# Altium schematic symbol library SchlibBTRC.SchLib: 19 symbols
Pins are listed as number, name and electrical type; pins without a type are passive.

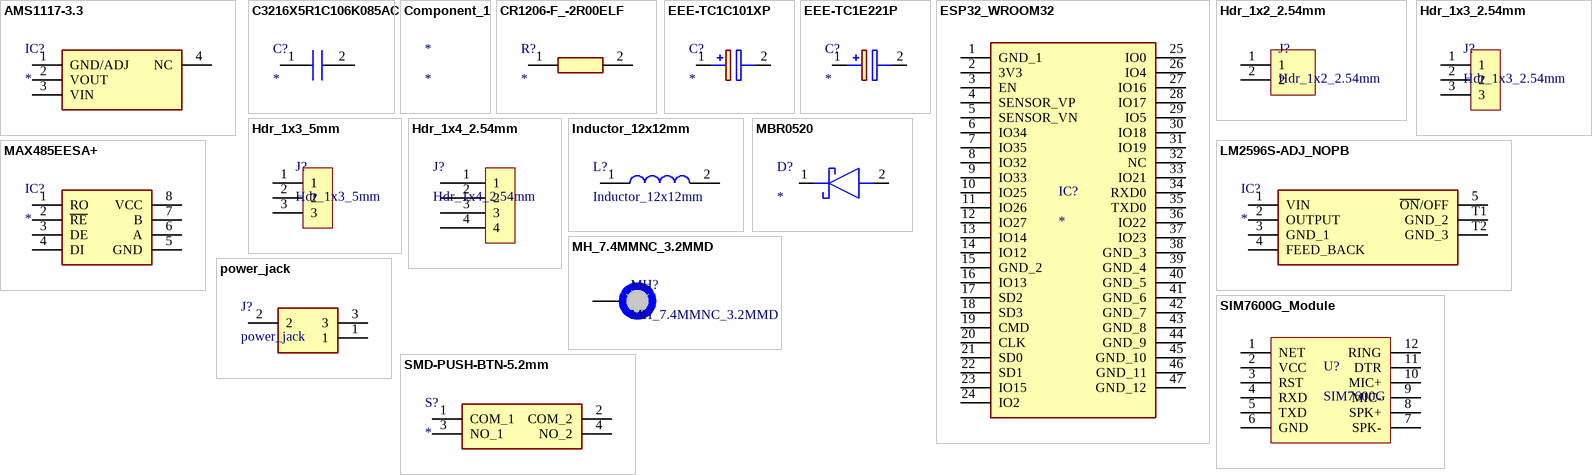
[diagram p0: symbols AMS1117-3.3 to SMD-PUSH-BTN-5.2mm]

## AMS1117-3.3
designator IC?
Integrated Circuit; Manufacturer_Name: Advanced; Manufacturer_Part_Number: AMS1117-3.3; Datasheet Link: https://datasheet.datasheetarchive.com/originals/distributors/Datasheets-28/DSA-550594.pdf; Height: 1.8mm
footprint SOT229P700X180-4N
pins: 1 GND/ADJ, 2 VOUT, 3 VIN, 4 NC

## C3216X5R1C106K085AC
designator C?
Capacitor; Manufacturer_Name: TDK; Manufacturer_Part_Number: C3216X5R1C106K085AC; Datasheet Link: https://product.tdk.com/info/en/catalog/datasheets/mlcc_commercial_midvoltage_en.pdf; Height: 1mm; Mouser Part Number: 810-C3216X5R1C106K0C; Mouser Price/Stock: https://www.mouser.com/Search/Refine.aspx?Keyword=810-C3216X5R1C106K0C
footprint CAPC3216X100N
pins: 1, 2

## Component_1
designator *

## CR1206-F_-2R00ELF
designator R?
Resistor; Manufacturer_Name: Bourns; Manufacturer_Part_Number: CR1206-F/-2R00ELF; Height: 0.75mm; Mouser Part Number: 652-CR1206-F/2R00ELF; Mouser Price/Stock: https://www.mouser.co.uk/ProductDetail/Bourns/CR1206-F-2R00ELF?qs=W%2FMpXkg%252BdQ47Z%2FeZv1nDSg%3D%3D
footprint RESC3216X75N
pins: 1, 2

## EEE-TC1C101XP
designator C?
Capacitor Polarised; Manufacturer_Name: Panasonic; Manufacturer_Part_Number: EEE-TC1C101XP; Datasheet Link: http://industrial.panasonic.com/cdbs/www-data/pdf/RDE0000/ABA0000C678.pdf; Height: 7.8mm; Mouser Part Number: 667-EEE-TC1C101XP; Mouser Price/Stock: https://www.mouser.co.uk/ProductDetail/Panasonic/EEE-TC1C101XP?qs=367PjNmvCmntb8uQ4S3WYg%3D%3D; Arrow Part Number: EEE-TC1C101XP; Arrow Price/Stock: https://www.arrow.com/en/products/eee-tc1c101xp/panasonic
footprint EEE0JA331XP
pins: 1 +, 2 -

## EEE-TC1E221P
designator C?
Capacitor Polarised; Manufacturer_Name: Panasonic; Manufacturer_Part_Number: EEE-TC1E221P; Datasheet Link: http://industrial.panasonic.com/cdbs/www-data/pdf/RDE0000/ABA0000C678.pdf; Height: 12mm; Mouser Part Number: 667-EEE-TC1E221P; Mouser Price/Stock: https://www.mouser.co.uk/ProductDetail/Panasonic/EEE-TC1E221P?qs=367PjNmvCmnTZpcwe6iq6Q%3D%3D; Arrow Part Number: EEE-TC1E221P; Arrow Price/Stock: https://www.arrow.com/en/products/eee-tc1e221p/panasonic?region=nac
footprint EEE0JA152UAP
pins: 1 +, 2 -

## ESP32_WROOM32
designator IC?
Integrated Circuit; Manufacturer_Name: Espressif Systems; Manufacturer_Part_Number: ESP32 WROOM32; Datasheet Link: https://www.espressif.com/sites/default/files/documentation/esp32-wroom-32_datasheet_en.pdf; Height: 3.2mm
footprint ESP32WROOM32
pins: 1 GND_1, 2 3V3, 3 EN, 4 SENSOR_VP, 5 SENSOR_VN, 6 IO34, 7 IO35, 8 IO32, 9 IO33, 10 IO25, 11 IO26, 12 IO27, 13 IO14, 14 IO12, 15 GND_2, 16 IO13, 17 SD2, 18 SD3, 19 CMD, 20 CLK, 21 SD0, 22 SD1, 23 IO15, 24 IO2, 25 IO0, 26 IO4, 27 IO16, 28 IO17, 29 IO5, 30 IO18, 31 IO19, 32 NC, 33 IO21, 34 RXD0, 35 TXD0, 36 IO22, 37 IO23, 38 GND_3, 39 GND_4, 40 GND_5, 41 GND_6, 42 GND_7, 43 GND_8, 44 GND_9, 45 GND_10, 46 GND_11, 47 GND_12

## Hdr_1x2_2.54mm
designator J?
footprint HDR_1x2_2.54mm
pins: 1, 2

## Hdr_1x3_2.54mm
designator J?
footprint Hdr_1x3_2.54mm
pins: 1, 2, 3

## Hdr_1x3_5mm
designator J?
footprint Hdr_1x3_5.0mm
pins: 1, 2, 3

## Hdr_1x4_2.54mm
designator J?
footprint Hdr_1x4_2.54mm
pins: 1, 2, 3, 4

## Inductor_12x12mm
designator L?
Inductor; Manufacturer_Name: Wurth Elektronik; Manufacturer_Part_Number: 744774147; Mouser Part Number: 710-744774147; Mouser Price/Stock: https://www.mouser.co.uk/ProductDetail/Wurth-Elektronik/744774147?qs=rS3zZhy2AQMMwor0dxnQcQ%3D%3D
footprint Inductor_12x12mm
pins: 1, 2

## LM2596S-ADJ_NOPB
designator IC?
Integrated Circuit; Manufacturer_Name: Texas Instruments; Manufacturer_Part_Number: LM2596S-ADJ/NOPB; Datasheet Link: https://www.ti.com/lit/ds/symlink/lm2596.pdf?HQS=ti-null-null-sf-df-pf-sep-wwe&ts=1592978195629; Height: 4.57mm; Mouser Part Number: 926-LM2596S-ADJ/NOPB; Mouser Price/Stock: https://www.mouser.co.uk/ProductDetail/Texas-Instruments/LM2596S-ADJ-NOPB?qs=X1J7HmVL2ZHoMN0DLDcNog%3D%3D; Arrow Part Number: LM2596S-ADJ/NOPB; Arrow Price/Stock: https://www.arrow.com/en/products/lm2596s-adjnopb/texas-instruments?region=nac
footprint LM2596SXADJ
pins: 1 VIN, 2 OUTPUT, 3 GND_1, 4 FEED_BACK, 5 ~{ON}/OFF, T1 GND_2, T2 GND_3

## MAX485EESA+
designator IC?
Integrated Circuit; Manufacturer_Name: Analog Devices; Manufacturer_Part_Number: MAX485EESA+; Datasheet Link: http://datasheets.maximintegrated.com/en/ds/MAX1487E-MAX491E.pdf; Height: 1.75mm; Mouser Part Number: 700-MAX485EESA; Mouser Price/Stock: https://www.mouser.co.uk/ProductDetail/Analog-Devices-Maxim-Integrated/MAX485EESA%2b?qs=1THa7WoU59HlqXlxuUW1Fg%3D%3D; Arrow Part Number: MAX485EESA+; Arrow Price/Stock: https://www.arrow.com/en/products/max485eesa/maxim-integrated?region=nac
footprint SOIC127P600X175-8N
pins: 1 RO, 2 ~{RE}, 3 DE, 4 DI, 5 GND, 6 A, 7 B, 8 VCC

## MBR0520
designator D?
Schottky Diode; Manufacturer_Name: Shikues; Manufacturer_Part_Number: MBR0520; Datasheet Link: https://datasheet.lcsc.com/szlcsc/2001131004_Shikues-MBR0520_C475717.pdf; Height: 1.2mm
footprint SOD3716X120N
pins: 1 K, 2 A

## MH_7.4MMNC_3.2MMD
designator MH?
footprint MH_7.4MMNC_3.2MMD_NON_COPPER_NPTH
pins: 1

## power_jack
designator J?
Connector; Manufacturer_Name: LUMBERG; Manufacturer_Part_Number: 1613 20; Datasheet Link: http://www.farnell.com/datasheets/2349122.pdf; Height: 7mm
footprint power_jack
pins: 1, 2, 3

## SIM7600G_Module
designator U?, comment SIM7600G
footprint SIM7600G_Module
pins: 1 NET, 2 VCC, 3 RST, 4 RXD, 5 TXD, 6 GND, 7 SPK-, 8 SPK+, 9 MIC-, 10 MIC+, 11 DTR, 12 RING

## SMD-PUSH-BTN-5.2mm
designator S?
Switch; Manufacturer_Name: SparkFun; Manufacturer_Part_Number: COM-08720; Datasheet Link: https://www.sparkfun.com/datasheets/Components/Buttons/SMD-Button.pdf; Height: 1.6mm; Mouser Part Number: 474-COM-08720; Mouser Price/Stock: https://www.mouser.co.uk/ProductDetail/SparkFun/COM-08720?qs=WyAARYrbSnaaMDwitZjU3A%3D%3D; Arrow Part Number: COM-08720; Arrow Price/Stock: https://www.arrow.com/en/products/com-08720/sparkfun-electronics?region=nac
footprint SMS_PUSH_BTN_5.2x5.2mm
pins: 1 COM_1, 2 COM_2, 3 NO_1, 4 NO_2